# Altium footprint library RMelf0102.PcbLib: 1 footprints
Each footprint in its own frame and in the unit in brackets; x right, y up, seen from the top. Pads: shape width x height; smd on the part's side, far side on the other; paste and mask are expansions set on the pad; w line width, h text height; cw(c..) or ccw(c..) is an arc to the next point about the centre after c.
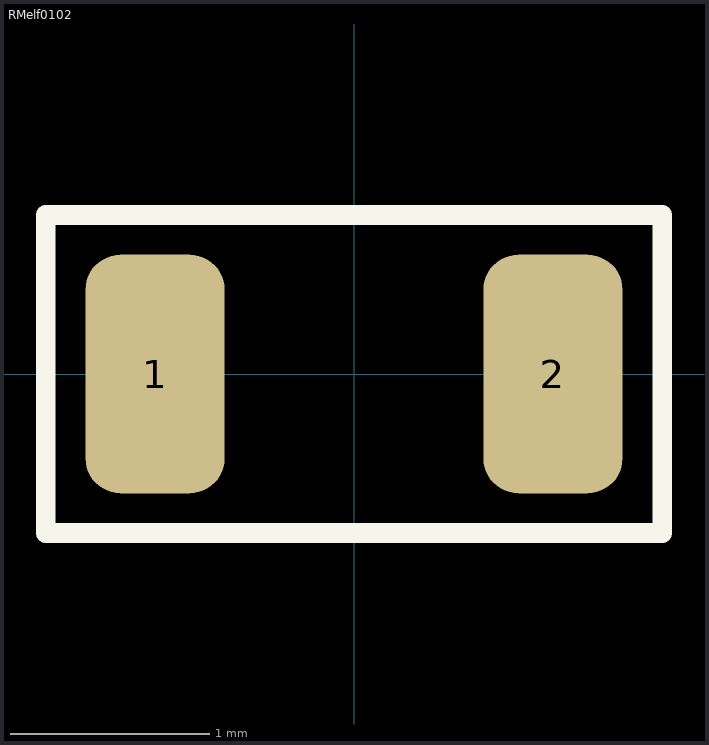
[diagram p0: the footprint, top view; thin cyan lines are the x and y axes]

## RMelf0102 [mm]
height 1.1
pads (2):
  rrect50% 0.7x1.2 smd: 1(-1,0) 2(1,0)
Top Overlay:
  lines w0.1: -1.55,-0.8 1.55,-0.8 1.55,0.8 -1.55,0.8 -1.55,-0.8
3D body "Melf-0102.STEP": height 1.25, standoff 0.15, extent -1,-0.55 1,0.55